# EAGLE library part DRV8835 (library learning_particle)
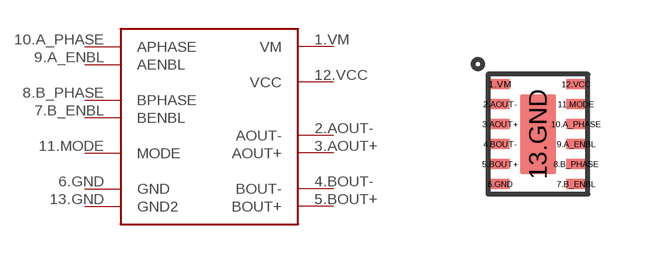
[diagram p3: symbol with the pads of DRV8835; footprint DRV8835]

Designator prefix -

## DRV8835DRV8835  [DRV8835]
1.VM  VM
2.AOUT-  AOUT-
3.AOUT+  AOUT+
4.BOUT-  BOUT-
5.BOUT+  BOUT+
6.GND  GND
7.B_ENBL  BENBL
8.B_PHASE  BPHASE
9.A_ENBL  AENBL
10.A_PHASE  APHASE
11.MODE  MODE
12.VCC  VCC
13.GND  GND2

## Footprint DRV8835 (pad centres in mm)
smd 0.5 x 0.25: 1.VM -0.95,1.25; 2.AOUT- -0.95,0.75; 3.AOUT+ -0.95,0.25; 4.BOUT- -0.95,-0.25; 5.BOUT+ -0.95,-0.75; 6.GND -0.95,-1.25; 7.B_ENBL 0.95,-1.25; 8.B_PHASE 0.95,-0.75; 9.A_ENBL 0.95,-0.25; 10.A_PHASE 0.95,0.25; 11.MODE 0.95,0.75; 12.VCC 0.95,1.25
smd 0.9 x 2: 13.GND 0,0